# Altium footprint library MT_Chip.PcbLib: 38 footprints (part 2 of 3)
Each footprint in its own frame and in the unit in brackets; x right, y up, seen from the top. Pads: shape width x height; smd on the part's side, far side on the other; paste and mask are expansions set on the pad; w line width, h text height; cw(c..) or ccw(c..) is an arc to the next point about the centre after c.
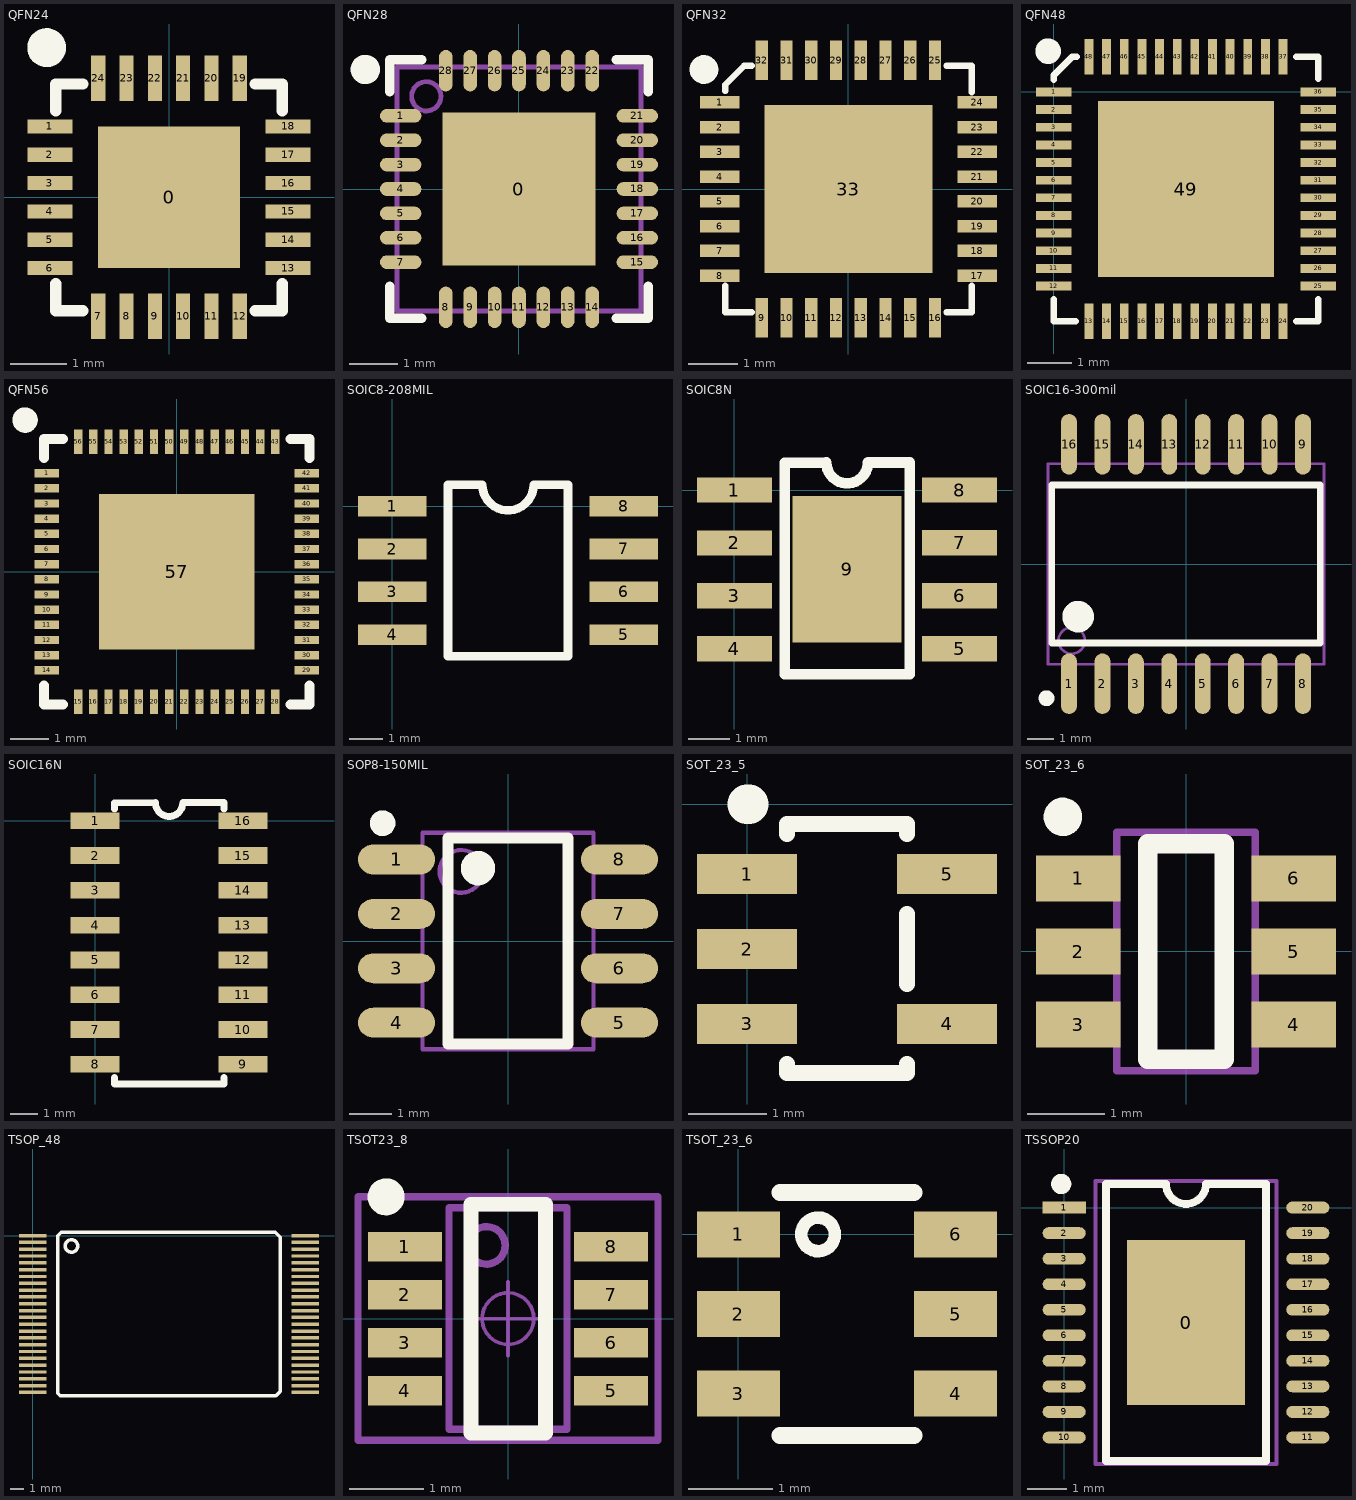
[diagram p1: the footprints below, top view; thin cyan lines are the x and y axes]

## QFN24 [mm]
pads (25):
  rect 2.5x2.5 smd: 0(0,0)
  rect 0.8x0.25 smd: 1(-2.101,1.25) 2(-2.101,0.75) 3(-2.101,0.25) 4(-2.101,-0.25) 5(-2.101,-0.75) 6(-2.101,-1.25) 13(2.101,-1.25) 14(2.101,-0.75) 15(2.101,-0.25) 16(2.101,0.25) 17(2.101,0.75) 18(2.101,1.25)
  rect 0.25x0.8 smd: 7(-1.25,-2.101) 8(-0.75,-2.101) 9(-0.25,-2.101) 10(0.25,-2.101) 11(0.75,-2.101) 12(1.25,-2.101) 19(1.25,2.101) 20(0.75,2.101) 21(0.25,2.101) 22(-0.25,2.101) 23(-0.75,2.101) 24(-1.25,2.101)
Top Overlay:
  circle w0.381: c-2.159,2.642 r0.152
  lines w0.2: -2,-1.525 -2,-2 -1.525,-2 ; -2,1.525 -2,2 -1.525,2 ; 1.525,-2 2,-2 2,-1.525 ; 1.525,2 2,2 2,1.525

## QFN28 [mm]
pads (29):
  rect 3.13x3.13 smd mask+0.051: 0(0,0)
  oval 0.85x0.28 smd mask+0.051: 1(-2.425,1.5) 2(-2.425,1) 3(-2.425,0.5) 4(-2.425,0) 5(-2.425,-0.5) 6(-2.425,-1) 7(-2.425,-1.5) 15(2.425,-1.5) 16(2.425,-1) 17(2.425,-0.5) 18(2.425,0) 19(2.425,0.5) 20(2.425,1) 21(2.425,1.5)
  oval 0.28x0.85 smd mask+0.051: 8(-1.5,-2.425) 9(-1,-2.425) 10(-0.5,-2.425) 11(0,-2.425) 12(0.5,-2.425) 13(1,-2.425) 14(1.5,-2.425) 22(1.5,2.425) 23(1,2.425) 24(0.5,2.425) 25(0,2.425) 26(-0.5,2.425) 27(-1,2.425) 28(-1.5,2.425)
Top Overlay:
  circle w0.3: c-3.15,2.45 r0.15
  lines w0.2: -2.65,-2 -2.65,-2.65 -2,-2.65 ; -2.65,2 -2.65,2.65 -2,2.65 ; 2,-2.65 2.65,-2.65 2.65,-2 ; 2,2.65 2.65,2.65 2.65,2
Mechanical 13:
  circle w0.1: c-1.9,1.9 r0.3
  lines w0.1: -2.5,-2.5 -2.5,2.5 2.5,2.5 2.5,-2.5 -2.5,-2.5

## QFN32 [mm]
pads (33):
  rect 0.8x0.25 smd: 1(-2.601,1.75) 2(-2.601,1.25) 3(-2.601,0.75) 4(-2.601,0.25) 5(-2.601,-0.25) 6(-2.601,-0.75) 7(-2.601,-1.25) 8(-2.601,-1.75) 17(2.601,-1.75) 18(2.601,-1.25) 19(2.601,-0.75) 20(2.601,-0.25) 21(2.601,0.25) 22(2.601,0.75) 23(2.601,1.25) 24(2.601,1.75)
  rect 0.25x0.8 smd: 9(-1.75,-2.601) 10(-1.25,-2.601) 11(-0.75,-2.601) 12(-0.25,-2.601) 13(0.25,-2.601) 14(0.75,-2.601) 15(1.25,-2.601) 16(1.75,-2.601) 25(1.75,2.601) 26(1.25,2.601) 27(0.75,2.601) 28(0.25,2.601) 29(-0.25,2.601) 30(-0.75,2.601) 31(-1.25,2.601) 32(-1.75,2.601)
  rect 3.4x3.4 smd: 33(0,0)
Top Overlay:
  circle w0.3: c-2.919,2.413 r0.14
  lines w0.127: -2.489,-1.956 -2.489,-2.489 -1.956,-2.489 ; -2.489,1.981 -2.489,2.108 -2.108,2.489 -1.956,2.489 ; 1.981,-2.489 2.489,-2.489 2.489,-1.956 ; 1.981,2.489 2.489,2.489 2.489,1.956
Mechanical 15:
  lines w0.1: -0.5,0 0.5,0 ; 0,-0.5 0,0.5

## QFN48 [mm]
pads (49):
  rect 0.8x0.2 smd: 1(0,0) 2(0,-0.4) 3(0,-0.8) 4(0,-1.2) 5(0,-1.6) 6(0,-2) 7(0,-2.4) 8(0,-2.8) 9(0,-3.2) 10(0,-3.6) 11(0,-4) 12(0,-4.4) 25(6,-4.4) 26(6,-4) 27(6,-3.6) 28(6,-3.2) 29(6,-2.8) 30(6,-2.4) 31(6,-2) 32(6,-1.6) 33(6,-1.2) 34(6,-0.8) 35(6,-0.4) 36(6,0)
  rect 0.2x0.8 smd: 13(0.8,-5.2) 14(1.2,-5.2) 15(1.6,-5.2) 16(2,-5.2) 17(2.4,-5.2) 18(2.8,-5.2) 19(3.2,-5.2) 20(3.6,-5.2) 21(4,-5.2) 22(4.4,-5.2) 23(4.8,-5.2) 24(5.2,-5.2) 37(5.2,0.8) 38(4.8,0.8) 39(4.4,0.8) 40(4,0.8) 41(3.6,0.8) 42(3.2,0.8) 43(2.8,0.8) 44(2.4,0.8) 45(2,0.8) 46(1.6,0.8) 47(1.2,0.8) 48(0.8,0.8)
  rect 4x4 smd: 49(3,-2.2)
Top Overlay:
  circle w0.3: c-0.125,0.925 r0.14
  lines w0.15: 0,-4.7 0,-5.2 0.5,-5.2 ; 0,0.275 0,0.375 0.425,0.8 0.525,0.8 ; 5.5,-5.2 6,-5.2 6,-4.7 ; 5.5,0.8 6,0.8 6,0.3
3D body: height 0.85, standoff 0, extent 0,-5.2 6,0.8

## QFN56 [mm]
pads (57):
  rect 0.65x0.22 smd: 1(-3.425,2.6) 2(-3.425,2.2) 3(-3.425,1.8) 4(-3.425,1.4) 5(-3.425,1) 6(-3.425,0.6) 7(-3.425,0.2) 8(-3.425,-0.2) 9(-3.425,-0.6) 10(-3.425,-1) 11(-3.425,-1.4) 12(-3.425,-1.8) 13(-3.425,-2.2) 14(-3.425,-2.6) 29(3.425,-2.6) 30(3.425,-2.2) 31(3.425,-1.8) 32(3.425,-1.4) 33(3.425,-1) 34(3.425,-0.6) 35(3.425,-0.2) 36(3.425,0.2) 37(3.425,0.6) 38(3.425,1) 39(3.425,1.4) 40(3.425,1.8) 41(3.425,2.2) 42(3.425,2.6)
  rect 0.22x0.65 smd: 15(-2.6,-3.425) 16(-2.2,-3.425) 17(-1.8,-3.425) 18(-1.4,-3.425) 19(-1,-3.425) 20(-0.6,-3.425) 21(-0.2,-3.425) 22(0.2,-3.425) 23(0.6,-3.425) 24(1,-3.425) 25(1.4,-3.425) 26(1.8,-3.425) 27(2.2,-3.425) 28(2.6,-3.425) 43(2.6,3.425) 44(2.2,3.425) 45(1.8,3.425) 46(1.4,3.425) 47(1,3.425) 48(0.6,3.425) 49(0.2,3.425) 50(-0.2,3.425) 51(-0.6,3.425) 52(-1,3.425) 53(-1.4,3.425) 54(-1.8,3.425) 55(-2.2,3.425) 56(-2.6,3.425)
  rect 4.1x4.1 smd: 57(0,0)
Top Overlay:
  circle w0.254: c3.5,3.5 r0.003
  circle w0.254: c-3.5,3.5 r0.003
  circle w0.35: c-4,4 r0.16
  lines w0.254: -3.5,-3 -3.5,-3.5 -3,-3.5 ; -3.5,3 -3.5,3.5 -3,3.5 ; 3,-3.5 3.5,-3.5 3.5,-3 ; 3,3.5 3.5,3.5 3.5,3
3D body: height 0.25, standoff 0, extent -3.5,-3.5 3.5,3.5

## SOIC8-208MIL [mil]
pads (8):
  rect 80x24 smd: 1(0,0) 2(0,-50.06) 3(0,-100.06) 4(0,-150.06) 5(270,-150) 6(270,-100) 7(270,-50) 8(270,0)
Top Overlay:
  lines w10: 75,24.94 75.06,25 105,25 ccw(c135,25) 165,25 204.94,25 205,24.94 205,-175.06 65,-175.06 65,24.94 95,24.94

## SOIC8N [mm]
pads (9):
  rect 1.8x0.61 smd: 1(0,0) 2(0,-1.272) 3(0,-2.542) 4(0,-3.812) 5(5.4,-3.81) 6(5.4,-2.54) 7(5.4,-1.27) 8(5.4,0)
  rect 2.62x3.51 smd: 9(2.7,-1.9)
Top Overlay:
  lines w0.254: 2.204,0.658 1.201,0.658 1.201,-4.422 4.207,-4.422 4.207,0.658 ; 2.204,0.66 ccw(c2.704,0.66) 3.204,0.66 4.205,0.66

## SOIC16-300mil [mm]
pads (16):
  oval 0.6x2.3 smd: 1(-4.445,-4.55) 2(-3.175,-4.55) 3(-1.905,-4.55) 4(-0.635,-4.55) 5(0.635,-4.55) 6(1.905,-4.55) 7(3.175,-4.55) 8(4.445,-4.55) 9(4.445,4.55) 10(3.175,4.55) 11(1.905,4.55) 12(0.635,4.55) 13(-0.635,4.55) 14(-1.905,4.55) 15(-3.175,4.55) 16(-4.445,4.55)
Top Overlay:
  circle w0.6: c-4.1,-2 r0.3
  circle w0.3: c-5.3,-5.1 r0.15
  lines w0.254: -5.1,-3 -5.1,3 5.1,3 5.1,-3 -5.1,-3
Mechanical 13:
  circle w0.1: c-4.345,-2.91 r0.5
  lines w0.1: -5.245,-3.81 -5.245,3.81 5.245,3.81 5.245,-3.81 -5.245,-3.81

## SOIC16N [mm]
pads (16):
  rect 1.8x0.61 smd: 1(0,0) 2(0,-1.27) 3(0,-2.54) 4(0,-3.81) 5(0,-5.08) 6(0,-6.35) 7(0,-7.62) 8(0,-8.89) 9(5.4,-8.89) 10(5.4,-7.62) 11(5.4,-6.35) 12(5.4,-5.08) 13(5.4,-3.81) 14(5.4,-2.54) 15(5.4,-1.27) 16(5.4,0)
Top Overlay:
  lines w0.254: 0.704,-9.367 0.704,-9.6 2.704,-9.6 4.704,-9.6 4.704,-9.367 ; 0.704,0.425 0.704,0.658 2.204,0.658 ; 2.204,0.66 ccw(c2.704,0.66) 3.204,0.66 4.704,0.66 4.704,0.427
3D body: height 1.75, standoff 0, extent 0.7,-9.6 4.7,0.65

## SOP8-150MIL [mm]
pads (8):
  oval 1.8x0.7 smd: 1(-2.6,1.905) 2(-2.6,0.635) 3(-2.6,-0.635) 4(-2.6,-1.905) 5(2.6,-1.905) 6(2.6,-0.635) 7(2.6,0.635) 8(2.6,1.905)
Top Overlay:
  circle w0.4: c-0.7,1.7 r0.2
  circle w0.3: c-2.925,2.75 r0.15
  lines w0.254: -1.4,-2.4 1.4,-2.4 1.4,2.4 -1.4,2.4 -1.4,-2.4
Mechanical 13:
  circle w0.1: c-1.095,1.625 r0.5
  lines w0.1: -1.995,-2.525 1.995,-2.525 1.995,2.525 -1.995,2.525 -1.995,-2.525
3D body "User Library-SOIC-8-150.STEP": height 1.75, standoff 0, extent -3.1,-2.5 3.1,2.5

## SOT_23_5 [mil]
pads (5):
  rect 50x20 smd: 1(0,-35) 2(0,-72.4) 3(0,-109.8) 4(100,-109.8) 5(100,-35)
Top Overlay:
  lines w8: 20,-130 20,-134.32 80,-134.32 80,-130 ; 20,-15 20,-10 80,-10 80,-15 ; 80,-90 80,-55
  lines w19.68: 0,0 1,0

## SOT_23_6 [mm]
pads (6):
  rect 1.1x0.6 smd: 1(-1.4,0.95) 2(-1.4,0) 3(-1.4,-0.95) 4(1.4,-0.95) 5(1.4,0) 6(1.4,0.95)
Top Overlay:
  circle w0.25: c-1.6,1.75 r0.125
  lines w0.254: -0.5,-1.4 -0.5,1.4 0.5,1.4 0.5,-1.4 -0.5,-1.4
Mechanical 13:
  lines w0.1: -0.9,-1.55 -0.9,1.55 0.9,1.55 0.9,-1.55 -0.9,-1.55
3D body: height 1.1, standoff 0, extent -0.9,-1.45 0.9,1.45

## TSOP_48 [mm]
pads (48):
  rect 2x0.25 smd: 1(0,0) 2(0,-0.5) 3(0,-1) 4(0,-1.5) 5(0,-2) 6(0,-2.5) 7(0,-3) 8(0,-3.5) 9(0,-4) 10(0,-4.5) 11(0,-5) 12(0,-5.5) 13(0,-6) 14(0,-6.5) 15(0,-7) 16(0,-7.5) 17(0,-8) 18(0,-8.5) 19(0,-9) 20(0,-9.5) 21(0,-10) 22(0,-10.5) 23(0,-11) 24(0,-11.5) 25(20,-11.5) 26(20,-11) 27(20,-10.5) 28(20,-10) 29(20,-9.5) 30(20,-9) 31(20,-8.5) 32(20,-8) 33(20,-7.5) 34(20,-7) 35(20,-6.5) 36(20,-6) 37(20,-5.5) 38(20,-5) 39(20,-4.5) 40(20,-4) 41(20,-3.5) 42(20,-3) 43(20,-2.5) 44(20,-2) 45(20,-1.5) 46(20,-1) 47(20,-0.5) 48(20,0)
Top Overlay:
  circle w0.254: c2.844,-0.762 r0.458
  lines w0.254: 9.271,0.25 10.795,0.25 ; 9.652,0.25 2.085,0.25 1.835,0 1.835,-11.553 2.032,-11.75 17.845,-11.75 18.165,-11.43 18.165,-0.135 17.78,0.25 10.668,0.25

## TSOT23_8 [mm]
pads (8):
  rect 1x0.4 smd: 1(-1.397,0.975) 2(-1.397,0.325) 3(-1.397,-0.325) 4(-1.397,-0.975) 5(1.397,-0.975) 6(1.397,-0.325) 7(1.397,0.325) 8(1.397,0.975)
Top Overlay:
  circle w0.25: c-1.651,1.65 r0.125
  lines w0.2: -0.5,-1.55 -0.5,1.55 0.508,1.55 0.508,-1.55 -0.5,-1.55
Mechanical 13:
  circle w0.1: c-0.292,0.992 r0.254
  lines w0.1: -0.8,-1.5 0.8,-1.5 0.8,1.5 -0.8,1.5 -0.8,-1.5
Mechanical 15:
  circle w0.05: c0,0 r0.35
  lines w0.05: -0.5,0 0.5,0 ; 0,-0.5 0,0.5
  lines w0.1: -2.032,-1.65 2.032,-1.65 2.032,1.65 -2.032,1.65 -2.032,-1.65
3D body "SOT23-8.STEP": height 1.15, standoff 0, extent -1.403,-1.5 1.403,1.5

## TSOT_23_6 [mm]
pads (6):
  rect 0.99x0.55 smd: 1(0,0) 2(0,-0.95) 3(0,-1.9) 4(2.59,-1.9) 5(2.59,-0.95) 6(2.59,0)
Top Overlay:
  circle w0.15: c0.95,0 r0.2
  lines w0.2: 0.495,-2.4 1.295,-2.4 2.095,-2.4 ; 0.495,0.5 1.295,0.5 2.095,0.5
3D body: height 1.1, standoff 0, extent 0.4,-2.4 2.2,0.5

## TSSOP20 [mm]
pads (21):
  rect 3x4.2 smd: 0(3.1,-2.925)
  rect 1.1x0.3 smd: 1(0,0)
  oval 1.1x0.3 smd: 2(0,-0.65) 3(0,-1.3) 4(0,-1.95) 5(0,-2.6) 6(0,-3.25) 7(0,-3.9) 8(0,-4.55) 9(0,-5.2) 10(0,-5.85) 11(6.2,-5.85) 12(6.2,-5.2) 13(6.2,-4.55) 14(6.2,-3.9) 15(6.2,-3.25) 16(6.2,-2.6) 17(6.2,-1.95) 18(6.2,-1.3) 19(6.2,-0.65) 20(6.2,0)
Top Overlay:
  circle w0.254: c-0.075,0.601 r0.13
  lines w0.2: 1.068,-6.45 1.068,0.601 2.592,0.601 ccw(c3.1,0.601) 3.608,0.601 5.132,0.601 5.132,-6.45 1.068,-6.45
Mechanical 13:
  lines w0.1: 0.8,-6.525 5.4,-6.525 5.4,0.675 0.8,0.675 0.8,-6.525
3D body: height 1.2, standoff 0.03, extent 1.075,-6.45 5.125,0.6